# EAGLE library part AOZ1284PI (library LARS_409_DC-DC)
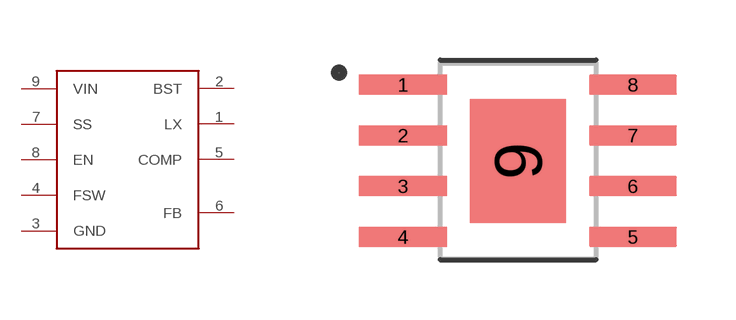
[diagram p6: symbol with the pads of HSOIC(8); footprint HSOIC(8)]

Designator prefix U

## AOZ1284PI  [HSOIC(8)]
1  LX
2  BST
3  GND
4  FSW
5  COMP
6  FB
7  SS
8  EN
9  VIN

## Footprint HSOIC(8) (pad centres in mm)
8-SOIC, 1.27 mm pitch, 6.00 mm span, 4.90 X 3.90 X 1.70 mm body, 3.00 X 2.30 mm thermal pad 8-pin SOIC package with 1.27 mm pitch, 6.00 mm span with body size 4.90 X 3.90 X 1.70 mm and thermal pad size 3.00 X 2.30 mm
smd 2.2 x 0.5: 1 -2.875,1.905; 2 -2.875,0.635; 3 -2.875,-0.635; 4 -2.875,-1.905; 5 2.875,-1.905; 6 2.875,-0.635; 7 2.875,0.635; 8 2.875,1.905
smd 2.4 x 3.1: 9 0,0